# Altium footprint library ESP07.PcbLib: 1 footprints
Each footprint in its own frame and in the unit in brackets; x right, y up, seen from the top. Pads: shape width x height; smd on the part's side, far side on the other; paste and mask are expansions set on the pad; w line width, h text height; cw(c..) or ccw(c..) is an arc to the next point about the centre after c.
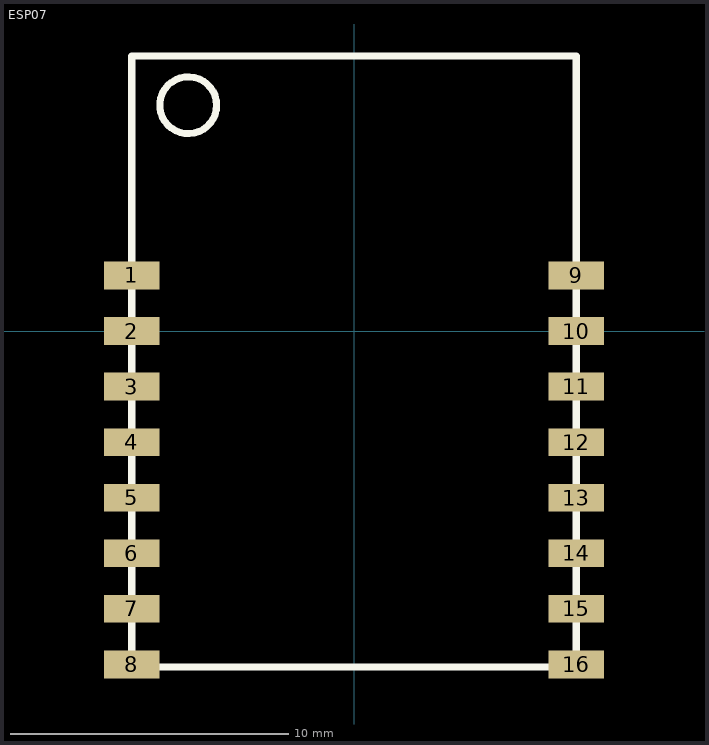
[diagram p0: the footprint, top view; thin cyan lines are the x and y axes]

## ESP07 [mm]
pads (16):
  rect 2x1 smd: 1(-8,2) 2(-8,0) 3(-8,-2) 4(-8,-4) 5(-8,-6) 6(-8,-8) 7(-8,-10) 8(-8,-12) 9(8,2) 10(8,0) 11(8,-2) 12(8,-4) 13(8,-6) 14(8,-8) 15(8,-10) 16(8,-12)
Top Overlay:
  circle w0.254: c-5.968,8.128 r1.024
  lines w0.254: -8,-12.094 8,-12.094 8,9.906 -8,9.906 -8,-12.094